# Altium integrated library FLoRa0.0.IntLib: 49 symbols
Pins are listed as number, name and electrical type; pins without a type are passive.

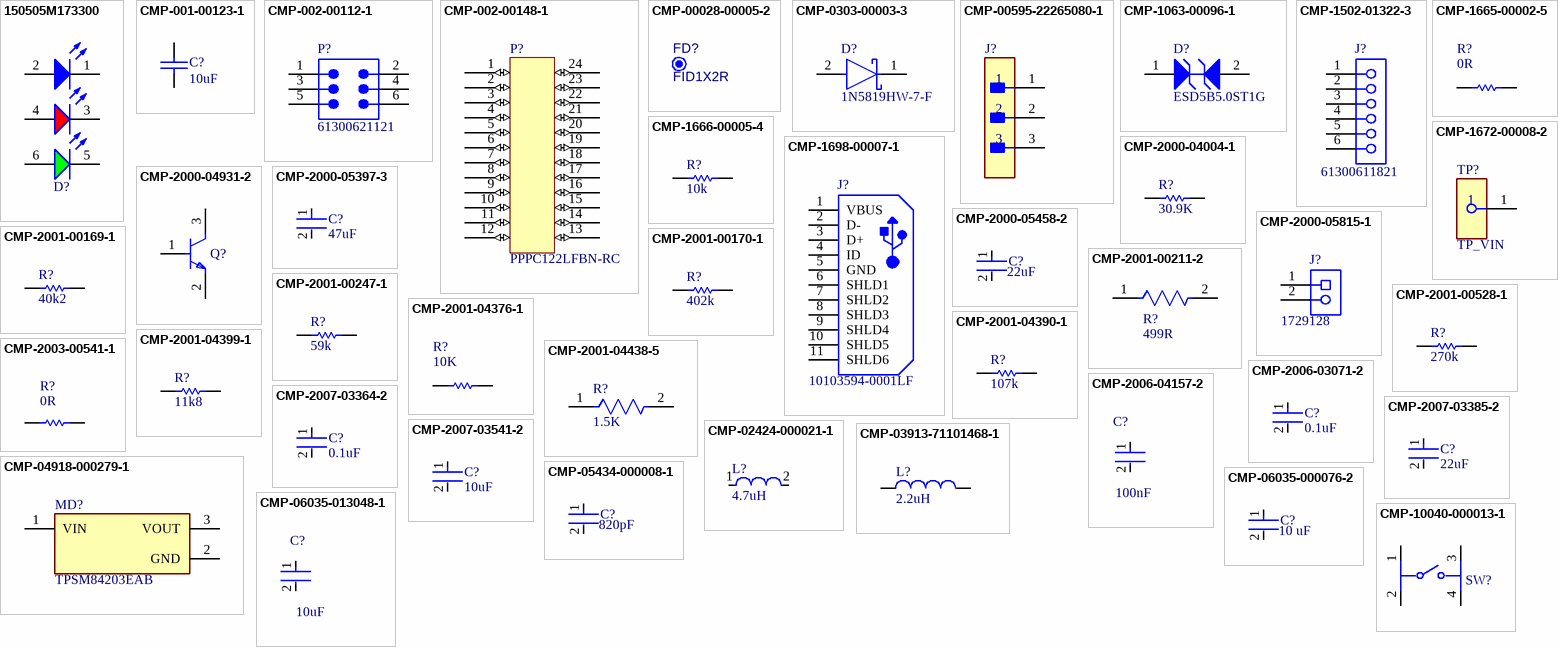
[diagram p0: symbols 150505M173300 to CMP-10040-000013-1]

## 150505M173300
designator D?, comment Red & Green & Blue, 120°  (value not drawn)
WL-SFTW Full-color TOP LED Waterclear, size 5050, Red & Green & Blue, 120°; Manufacturer Part Number: 150505M173300; Manufacturer: Wurth Elektronik; Case/Size Code: 5050; Chip Technology: AlInGaP + InGaN; Dominant Wavelength (Blue): 470nm; Dominant Wavelength (Green): 520nm; Dominant Wavelength (Red): 625nm; Forward Voltage (Blue): 3.2V; Forward Voltage (Red): 2V; Luminous Intensity (Blue): 350mcd; Luminous Intensity (Green): 1300mcd; Luminous Intensity (Red): 800mcd; Peak Wavelength (Blue): 465nm; Peak Wavelength (Green): 515nm; Peak Wavelength (Red): 635nm; Category: Signal LEDs; Match Code: WL-SFTW; ComponentLink1Description: Website Link; ComponentLink1URL: https://www.we-online.com/redexpert/article/150505M173300?ad; ComponentLink2Description: Datasheet Link; ComponentLink2URL: https://www.we-online.com/redexpert/spec/150505M173300?ad; Mount: Surface Mount; Operating Temperature Max: 85°C; Operating Temperature Min: -40°C; Packaging: Tape and Reel; Length: 5.4mm; Width: 5mm; Height: 1.5mm; Emitting Color: Red & Green & Blue; Forward Voltage (Green): 3.2V; Viewing Angle: 120°
footprint WL-SFTW_5050_150505M173300
pins: 1 K, 2 A, 3 K, 4 A, 5 K, 6 A

## CMP-001-00123-1
designator C?, comment 10uF
Source: ECET231_ProjectThree_SCHLIB_Rev02.SCHLIB; Design Item ID: CAP; Component Type: Capacitors
footprint 0805
pins: 1, 2

## CMP-002-00112-1
designator P?, comment 61300621121
Board Connector, 6 Contact(s), 2 Row(s), Male, Straight, 0.1 inch Pitch, Solder Terminal, Black Insulator, Plug; Manufacturer: Wurth Electronics; Max Operating Temperature: 125°C; Mounting Technology: Board; Connector Type: BOARD CONNECTOR; Min Operating Temperature: -40°C; RoHS Compliant: Yes; Manufacturer Part Number: 61300621121; Component Type: Connectors
footprint 61300621121 (Pin Header, pitch 2.54 mm, THT, Vertical, dual row, 6p)
pins: 1, 2, 3, 4, 5, 6

## CMP-002-00148-1
designator P?, comment PPPC122LFBN-RC
Board Connector, 24 Contact(s), 2 Row(s), Female, Straight, 0.1 inch Pitch, Solder Terminal, Locking; Manufacturer: Sullins; Connector Type: BOARD CONNECTOR; Mounting Technology: Board; RoHS Compliant: Yes; Manufacturer Part Number: PPPC122LFBN-RC; Component Type: Connectors
footprint DIP24
pins: 1 (io), 2 (io), 3 (io), 4 (io), 5 (io), 6 (io), 7 (io), 8 (io), 9 (io), 10 (io), 11 (io), 12 (io), 13 (io), 14 (io), 15 (io), 16 (io), 17 (io), 18 (io), 19 (io), 20 (io), 21 (io), 22 (io), 23 (io), 24 (io)

## CMP-00028-00005-2
designator FD?, comment FID1X2R  (no BOM)
Fiducial - Round 1x2mm; Manufacturer: No Vendor; Pins: 0; Manufacturer Part Number: FID1X2R; Component Type: Mechanical
footprint FID1X2R (Fiducial - Round 1x2mm)

## CMP-0303-00003-3
designator D?, comment 1N5819HW-7-F
DIODE SCHOTTKY 40V 1A SOD123; Forward Voltage: 450mV; Capacitance: 110pF; Max Forward Surge Current (Ifsm): 25A; Peak Reverse Current: 50uA; Polarity: Standard; Element Configuration: Single; Max Power Dissipation: 450mW; Min Operating Temperature: -65°C; Package Quantity: 3000; Contact Plating: Tin; Weight: 0.000353oz; Max Repetitive Reverse Voltage (Vrrm): 40V; Max Reverse Voltage (DC): 40V; Height: 1.25mm; Average Rectified Current: 1A; Width: 1.7mm; Case/Package: SOD-123-2; Lead Free: Lead Free; Max Operating Temperature: 125°C; Current Rating: 1A; Termination: SMD/SMT; Forward Current: 1A; Radiation Hardening: No; Number of Pins: 2; Length: 2.85mm; Voltage Rating (DC): 40V; REACH SVHC: No SVHC; Peak Non-Repetitive Surge Current: 25A; Packaging: Tape and Reel; Output Current: 1A
footprint FP-SOD123-IPC_A
footprint FP-SOD123-IPC_B
footprint FP-SOD123-MFG
footprint FP-SOD123-IPC_C
pins: 1 C, 2 A

## CMP-00595-22265080-1
designator J?, comment PREC003SAAN-RC  (value not drawn)
PREC003SAAN-RC Conn Header Vert 3POS 2.54MM; NexarPartId: 22265080; Number of Contacts: 3; Connector Type: Male Pin; Current Rating: 3A; Height: 8.74mm; Contact Mating Length: 5.842mm; Min Operating Temperature: -40°C; Termination: Solder; Packaging: Bulk; Pitch: 2.54mm; Color: Black; Mount: Through Hole; Contact Material: Nickel, Tin; Number of Rows: 1; Max Operating Temperature: 105°C; RoHS: Compliant; Contact Plating: Tin; Number of Positions: 3
footprint FP-PREC003SAAN-RC-MFG (Conn Header Vert 3POS 2.54MM)
pins: 1, 2, 3

## CMP-1063-00096-1
designator D?, comment ESD5B5.0ST1G
Transient Voltage Suppressor, Micro-Packaged Diode for ESD Protection, 2-Pin SOD-523, Pb-Free, Tape and Reel; Manufacturer: On Semiconductor; Number of Lines: 1; Direction: Bidirectional; VRWM Max (V): 5; V(BR) Min (V): 5.8; ComponentLink2URL: http://www.onsemi.cn/pub_link/Collateral/ESD5B5.0ST1G.PDF; Mounting Technology: Surface Mount; ComponentLink1URL: http://www.onsemi.com/; ComponentLink2Description: Datasheet; ComponentLink3Description: Package Specification; RoHS: Pb-Free; Packing: Tape and Reel; PackageDescription: 2-Pin SOD, Body 1.2 x 0.8 mm; ComponentLink1Description: Manufacturer URL; ComponentLink3URL: http://www.onsemi.cn/pub_link/Collateral/ESD5B5.0ST1G.PDF; PackageVersion: Rev. C, 03/2007; DatasheetVersion: Rev. 3; PartNumber: ESD5B5.0ST1G; PackageReference: SOD-523-2-502-01_C; IR Max (uA): 1
footprint ONSC-SOD-523-2-502-01_C_V (SOD, 2-Leads, Body 1.2x0.8mm)
pins: 1 A1, 2 A2

## CMP-1502-01322-3
designator J?, comment 61300611821
NexarPartId: 21642411; Current Rating: 3A; Operating Supply Voltage: 250V; Contact Resistance: 20mΩ; Gender: Female; Number of Pins: 6; Orientation: Vertical; Lead Pitch: 2.54mm; RoHS: Compliant
footprint 61300611821 (THT Vertical Socket Header WR-PHD, Pitch 2.54 mm, Single Row, 6 pins)
pins: 1, 2, 3, 4, 5, 6

## CMP-1665-00002-5
designator R?, comment 0R
Chip Resistor, 0 Ohm, +/- 1%, 0.125 W, -55 to 155 degC, 0805 (2012 Metric), RoHS, Tape and Reel; PartNumber: ERJ-6GEY0R00V; Tolerance: 5%; Resistance: 0 Ohm; REACH SVHC: No SVHC; Min Operating Temperature: -55 degC; Case/Package: 0805; Packaging: Tape and Reel; Package Quantity: 5000; ComponentLink1Description: Manufacturer URL; PackageDescription: 2-Pin Surface Mount Device, Body 2 x 1.25 mm; Mounting Technology: Surface Mount; Max Operating Temperature: 155 degC; Width: 1.25 mm; RoHSCompliant: True; Height: 0.6 mm; ComponentLink1URL: http://www.panasonic.com/; ComponentLink2URL: http://industrial.panasonic.com/cdbs/www-data/pdf/RDA0000/AOA0000C84.pdf; Case Code (Imperial): 0805; DatasheetVersion: 03/2015; Length: 2 mm; Case Code (Metric): 2012; ComponentLink2Description: Datasheet; Radiation Hardening: No
footprint RESC2013X70X40NL20T20 (Chip Resistor, 2-Leads, Body 2.00x1.25mm, IPC Medium Density)
footprint RESC2013X70X40LL20T20 (Chip Resistor, 2-Leads, Body 2.00x1.25mm, IPC High Density)
footprint RESC2013X70X40ML20T20 (Chip Resistor, 2-Leads, Body 2.00x1.25mm, IPC Low Density)
pins: 1, 2

## CMP-1666-00005-4
designator R?, comment 10k
Rfbb- Chip Resistor, 10 KOhm, +/- 1%, 100 mW, -55 to 155 degC, 0603 (1608 Metric), RoHS, Tape and Reel; Manufacturer: Vishay Semiconductor; Voltage Rating: 75 V; Max Operating Temperature: 155 degC; PackageDescription: 2-Pin Surface Mount Device, Body 1.575 x 0.85 mm; ComponentLink1Description: Manufacturer URL; RoHSCompliant: true; PackageReference: 0603; REACH SVHC: Unknown; Length: 1.55 mm; DatasheetVersion: 06/2012; Packaging: Tape and Reel; Min Operating Temperature: -55 degC; Mounting Technology: Surface Mount; ComponentLink2URL: https://datasheet.ciiva.com/11809/0900766b80d98afc-11809037.pdf; Height: 0.45 mm; ComponentLink2Description: Datasheet; Package Quantity: 5000; ComponentLink1URL: http://www.vishay.com/
footprint RESC1609X50X30NL8T20 (Chip Resistor, 2-Leads, Body 1.65x0.95mm, IPC Medium Density)
footprint RESC1609X50X30ML8T20 (Chip Resistor, 2-Leads, Body 1.65x0.95mm, IPC Low Density)
footprint RESC1609X50X30LL8T20 (Chip Resistor, 2-Leads, Body 1.65x0.95mm, IPC High Density)
pins: 1, 2

## CMP-1672-00008-2
designator TP?, comment TP_VIN
V_IN_TEST; NexarPartId: 22052288; Number of Contacts: 1; Contact Material: Bronze, Silver; Number of Pins: 1; Lead Free: Lead Free; Packaging: Tape and Reel; Mount: Surface Mount; Height: 2.286mm; Contact Plating: Silver; Material: Bronze; Termination: SMD/SMT; REACH SVHC: No SVHC; RoHS: Compliant
footprint FP-5019-MFG (Test Point, Mini, SMT, Phos Bronze/Silver, 1000pc Tape & Reel)
pins: 1

## CMP-1698-00007-1
designator J?, comment 10103594-0001LF
Micro USB 2.0 B Receptacle, -55 to 85 degC, 5-Pin SMD, RoHS, Tape and Reel; Type (Resistor): Thick Film; Case\Package: 0603; Resistance: 4.7 kohm; Tolerance: 1%; Voltage Rating: 75 V; Power Rating: 100 mW; Case Code (Imperial): 0603; Case Code (Metric): 1608; REACH SVHC: Unknown; ComponentLink1URL: http://portal.fciconnect.com/; Package Quantity: 5000; RoHSCompliant: true; Max Operating Temperature: 155 degC; Min Operating Temperature: -55 degC; Mount: Surface Mount; Weight: 7.1E-05 oz; Length: 1.55 mm; PackageDescription: 5-Pin Surface Mount Device, Body 8.04 x 5.62 mm; Pins: 2; Height: 0.45 mm; ComponentLink2Description: Datasheet; ComponentLink2URL: http://portal.fciconnect.com/Comergent//fci/drawing/10103594.pdf; PackageReference: FCI-10103594-0001LF; DatasheetVersion: Rev. A, 06/2010; Width: 0.85 mm; Packaging: Tape and Reel; ComponentLink1Description: Manufacturer URL
footprint FCI-10103594-0001LF_V (SMD, 5-Leads, Body 8.04x5.62mm, Pitch 0.65 mm)
pins: 1 VBUS, 2 D-, 3 D+, 4 ID, 5 GND, 6 SHLD1, 7 SHLD2, 8 SHLD3, 9 SHLD4, 10 SHLD5, 11 SHLD6

## CMP-2000-04004-1
designator R?, comment 30.9K
Rfbt; Manufacturer: Yageo; Part Number: RC0603FR-0730K9L
footprint RESC1608X55X25NL10T15 (Chip Resistor, 2-Leads, Body 1.60x0.80mm, IPC Medium Density)
footprint RESC1608X55X25LL10T15 (Chip Resistor, 2-Leads, Body 1.60x0.80mm, IPC High Density)
footprint RESC1608X55X25ML10T15 (Chip Resistor, 2-Leads, Body 1.60x0.80mm, IPC Low Density)
pins: 1, 2
1 alternate drawing of the same symbol

## CMP-2000-04931-2
designator Q?, comment MMBT3904-7-F  (value not drawn)
TRANS NPN 40V 0.2A SMD SOT23-3; Frequency: 300MHz; Power Dissipation: 350mW; Element Configuration: Single; Max Power Dissipation: 300mW; Max Collector Current: 200mA; Collector Emitter Saturation Voltage: 300mV; Number of Elements: 1; hFE Min: 100; Collector Base Voltage (VCBO): 60V; Emitter Base Voltage (VEBO): 6V; Contact Plating: Tin; Package Quantity: 3000; Max Frequency: 300MHz; REACH SVHC: No SVHC; Max Operating Temperature: 150°C; Width: 1.4mm; Collector Emitter Voltage (VCEO): 40V; Voltage Rating (DC): 40V; Radiation Hardening: No; Case/Package: SOT-23; Height: 1mm; Collector Emitter Breakdown Voltage: 40V; Length: 3.05mm; Polarity: NPN; Packaging: Tape and Reel; Number of Pins: 3; Min Operating Temperature: -55°C; Gain Bandwidth Product: 300MHz; Mount: Surface Mount; Weight: 0.000282oz; Continuous Collector Current: 200mA; Transition Frequency: 300MHz; Max Breakdown Voltage: 40V; Lead Free: Lead Free
footprint FP-SOT23-IPC_A
footprint FP-SOT23-MFG
footprint FP-SOT23-IPC_C
footprint FP-SOT23-IPC_B
pins: 1 B, 2 E, 3 C

## CMP-2000-05397-3
designator C?, comment 47uF
Multilayer Ceramic Capacitors 47uF ±20% 25V X5R SMD 1206; Weight: 0.000571oz; Dielectric: X5R; Length: 0.126inch; Voltage Rating: 25V; Case/Package: 1206; Dielectric Material: Ceramic; Min Operating Temperature: -55°C; Lead Free: Lead Free; Packaging: Tape and Reel; Package Quantity: 1; Mount: Surface Mount; Depth: 1.6mm; REACH SVHC: No SVHC; Termination: SMD/SMT; Case Code (Imperial): 1206; Series: C; Resistor Type: Ceramic; Voltage: 25V; Width: 0.063inch; Height: 1.6mm; Tolerance: 20%; Capacitance: 47uF; Max Operating Temperature: 85°C; Voltage Rating (DC): 25V; RoHS Compliant: Yes; Thickness: 0.071inch; Case Code (Metric): 3216
footprint FP-C3216-160-0_2-MFG
footprint FP-C3216-160-0_2-IPC_A
footprint FP-C3216-160-0_2-IPC_B
footprint FP-C3216-160-0_2-IPC_C
pins: 1, 2

## CMP-2000-05458-2
designator C?, comment 22uF
CAP CER 22UF 25V X5R 1210; Manufacturer: Murata Electronics North America; Manufacturer Part Number: GRM32ER61E226KE15L; Possible Substitute: GRM32ER61E226KE15K; Other Names: 490-3889-2; Material: Ceramic; Tolerance: 10%; Digikey Description: CAP CER 22UF 25V X5R 1210; Mouser Description: Multilayer Ceramic Capacitors MLCC - SMD/SMT 1210 22uF 25volts X5R 10%; Device Class L2: Capacitors; Height: 2.7mm; Temperature Characteristic: X5R; Category: Cap; RoHS: TRUE; Operating Temperature: -55°C ~ 85°C; Temperature: -55°C to +85°C; Lead Free: Yes; Package: GRM32; Temperature Range High: +85°C; Package / Case: 1210 (3225 Metric); Standard Package: 1,000; Packaging: Cut Tape (CT); Capacitance: 22uF; Thickness (Max): 0.106" (2.70mm); Value: 22uF; Automotive: No; Device Class L1: Passive Components; Voltage - Rated: 25V; Temperature Range Low: -55°C; Size / Dimension: 0.126" L x 0.098" W (3.20mm x 2.50mm); ComponentLink2Description: Datasheet; Device Class L3: Ceramic Capacitors; Temperature Coefficient: X5R; ComponentLink2URL: https://search.murata.co.jp/Ceramy/image/img/A01X/G101/ENG/GRM32ER61E226KE15-01A.pdf; Voltage Rating: 25V; Octopart: https://octopart.com/grm32er61e226ke15l-murata-197441; Applications: General Purpose; Mounting Type: Surface Mount, MLCC
footprint FP-GRM32-MFG
footprint FP-GRM32-IPC_C
footprint FP-GRM32-IPC_B
footprint FP-GRM32-IPC_A
pins: 1, 2

## CMP-2000-05815-1
designator J?, comment 1729128
PCB Terminal Block, 13.5 A, 400 V, 2-Pin THD, RoHS, Bulk; Manufacturer: Phoenix Contact; Package Version: 03/2015; No. of Rows: 1; Pitch: 5.08mm; No. of Positions: 2; Voltage Rating: 400V; Current Rating: 13500mA; Manufacturer URL: http://www.phoenixcontact.com/; Datasheet URL: https://datasheet.ciiva.com/16046/1729128-16046181.pdf; RoHS: TRUE; Package URL: https://www.phoenixcontact.com/online/portal/pi/pxc/product_detail_page/!ut/p/b1/3VdJjqNKFDxLH8AFycySyWY2ozFsEPOMMQaDOX1XedGL_1Vdm5YXJleknhSKeBkvI6EA8ncAo3AYoDhBQGco6KN7VURTdemj9us_IEKEZo_YHiPAEWEFmDGOHMORkqKYCORBZxgL7ZoaZYcbFFUZ3fqxSY6GOuxydWUuHqz1ynmMFygu583Bob0Ewr6Sd_l-5m-kAueHiB0jpRwZwe58wwtkpxtMYd_LmGcDRU02dRNEyWt6Y2ti5pSyJ_reIkzIulrqApdnbT11V5jnCKbYNCvhEM1MCpPByat_X379-iThf08CI5GfOPqfBeS3BRoBOdD55AKVv0iLwCMq-2BrzXWSGRH7pUGD9uwXQjiph3xL0DKQwdGa0JImiIOmBNOestqgwTHSSs2oOep-78apyXQBvNi8ZLaFjvjWvcaUEBu0MC6Wbe-d6mB0FAebo2lUWinqYaZs5DAYzV0RP9yitUjnGJ0iI9xhZkT42OCQNUJJhkgWINNQLP2JFP6OpMg3JCVg70jqHT0lvKOnhHf0lPuOnnLf0VPuWx6_dxwUIvwk5WMkT0kLL1mh61l2yZVSzG3pYV_bqo-mj6uMKwKwdnnW8Jh5RTOJzMOA5c-eJDaZQw4mTMPH02PvS_ZAqNVjVTo2WyYLkwH_KU1mmmG5kjRhDqPXLwwVHvVOjCM60-fpXvTDfMGW1PVFVS1r4e4yVDk4ZdNbkUHvqPqQSeian4UD39fNKmachqdJ1NJbyk8rXT9mXTvPk3oE5meulKGgiruPJek-4I9hTT6G8ZLOyRSm2RRVbThERQad5OS28hdt4YW4vG0stgYYzsWsK4_7y6DZMjJSCqri1kyiZR5vD7pwIrNR7QwPHTcLTI5qT7eRlpHrdGiupYlqQDJ7zy_CND8fWWBoLRXxk1RVcXiBQwbTD4Xi7KL-FuO94t9xaqweXzH; PartNumber: 1729128; Package Description: 2-Pin Through Hole Device, Body 8.1 x 10.16 mm, Pitch 5.08 mm; Datasheet Version: 12/2013; Mounting Technology: ThroughHole; Orientation: Horizontal; Package Reference: 1729128-2; Packing: Bulk
footprint PHOE-1729128-2_V (Receptacle, 2-Leads, Body 8.1x10.16mm, Pitch 5.08mm)
pins: 1, 2

## CMP-2001-00169-1
designator R?, comment value 40k2  (hidden comment: ERJ-6ENF4022V)
Manufacturer: Panasonic; Part Number: ERJ-6ENF4022V
footprint RESC2013X70X40NL20T20 (Chip Resistor, 2-Leads, Body 2.00x1.25mm, IPC Medium Density)
footprint RESC2013X70X40LL20T20 (Chip Resistor, 2-Leads, Body 2.00x1.25mm, IPC High Density)
footprint RESC2013X70X40ML20T20 (Chip Resistor, 2-Leads, Body 2.00x1.25mm, IPC Low Density)
pins: 1, 2
1 alternate drawing of the same symbol

## CMP-2001-00170-1
designator R?, comment value 402k  (hidden comment: ERJ-6ENF4023V)
Manufacturer: Panasonic; Part Number: ERJ-6ENF4023V
footprint RESC2013X70X40ML20T20 (Chip Resistor, 2-Leads, Body 2.00x1.25mm, IPC Low Density)
footprint RESC2013X70X40LL20T20 (Chip Resistor, 2-Leads, Body 2.00x1.25mm, IPC High Density)
footprint RESC2013X70X40NL20T20 (Chip Resistor, 2-Leads, Body 2.00x1.25mm, IPC Medium Density)
pins: 1, 2
1 alternate drawing of the same symbol

## CMP-2001-00211-2
designator R?, comment 499R
RES SMD 499 OHM 1% 1/8W 0805; Temperature Coefficient: 100ppm/°C; Working Voltage: 150V; Power Rating: 125mW; Case/Package: 0805; Mount: Surface Mount; Height: 0.6mm; Resistor Type: Thick Film; Length: 2mm; Depth: 1.25mm; Tolerance: 1%; REACH SVHC: No SVHC; RoHS Compliant: Yes; Case Code (Imperial): 0805; Min Operating Temperature: -55°C; Contact Plating: Tin; Lead Free: Lead Free; Construction: Rectangular; Technology: THICK FILM; Termination: SMD/SMT; Features: Automotive AEC-Q200; Case Code (Metric): 2012; Resistance Tolerance: 1%; Voltage Rating: 150V; Max Operating Temperature: 155°C; Series: ERJ; Packaging: Tape and Reel; Radiation Hardening: No; Military Standard: Not; Voltage Rating (DC): 150V; Package Quantity: 1; Max Power Dissipation: 125mW; Number of Terminations: 2; Resistance: 499R; Width: 0.049inch
footprint FP-ERJ6EN-IPC_B
footprint FP-ERJ6EN-MFG
footprint FP-ERJ6EN-IPC_A
footprint FP-ERJ6EN-IPC_C
pins: 1, 2

## CMP-2001-00247-1
designator R?, comment value 59k  (hidden comment: ERJ-6ENF5902V)
Manufacturer: Panasonic; Part Number: ERJ-6ENF5902V
footprint RESC2013X70X40NL20T20 (Chip Resistor, 2-Leads, Body 2.00x1.25mm, IPC Medium Density)
footprint RESC2013X70X40LL20T20 (Chip Resistor, 2-Leads, Body 2.00x1.25mm, IPC High Density)
footprint RESC2013X70X40ML20T20 (Chip Resistor, 2-Leads, Body 2.00x1.25mm, IPC Low Density)
pins: 1, 2
1 alternate drawing of the same symbol

## CMP-2001-00528-1
designator R?, comment value 270k  (hidden comment: ERJ6ENF2703V)
Manufacturer: Panasonic; Part Number: ERJ6ENF2703V
footprint RESC2013X70X40NL20T20 (Chip Resistor, 2-Leads, Body 2.00x1.25mm, IPC Medium Density)
footprint RESC2013X70X40LL20T20 (Chip Resistor, 2-Leads, Body 2.00x1.25mm, IPC High Density)
footprint RESC2013X70X40ML20T20 (Chip Resistor, 2-Leads, Body 2.00x1.25mm, IPC Low Density)
pins: 1, 2
1 alternate drawing of the same symbol

## CMP-2001-04376-1
designator R?, comment 10K
Manufacturer: Panasonic; Part Number: ERJ-6ENF1002V
footprint RESC2013X70X40ML20T20 (Chip Resistor, 2-Leads, Body 2.00x1.25mm, IPC Low Density)
footprint RESC2013X70X40NL20T20 (Chip Resistor, 2-Leads, Body 2.00x1.25mm, IPC Medium Density)
footprint RESC2013X70X40LL20T20 (Chip Resistor, 2-Leads, Body 2.00x1.25mm, IPC High Density)
pins: 1, 2
1 alternate drawing of the same symbol

## CMP-2001-04390-1
designator R?, comment value 107k  (hidden comment: ERJ-6ENF1073V)
Manufacturer: Panasonic; Part Number: ERJ-6ENF1073V
footprint RESC2013X70X40LL20T20 (Chip Resistor, 2-Leads, Body 2.00x1.25mm, IPC High Density)
footprint RESC2013X70X40NL20T20 (Chip Resistor, 2-Leads, Body 2.00x1.25mm, IPC Medium Density)
footprint RESC2013X70X40ML20T20 (Chip Resistor, 2-Leads, Body 2.00x1.25mm, IPC Low Density)
pins: 1, 2
1 alternate drawing of the same symbol

## CMP-2001-04399-1
designator R?, comment value 11k8  (hidden comment: ERJ-6ENF1182V)
Manufacturer: Panasonic; Part Number: ERJ-6ENF1182V
footprint RESC2013X70X40NL20T20 (Chip Resistor, 2-Leads, Body 2.00x1.25mm, IPC Medium Density)
footprint RESC2013X70X40ML20T20 (Chip Resistor, 2-Leads, Body 2.00x1.25mm, IPC Low Density)
footprint RESC2013X70X40LL20T20 (Chip Resistor, 2-Leads, Body 2.00x1.25mm, IPC High Density)
pins: 1, 2
1 alternate drawing of the same symbol

## CMP-2001-04438-5
designator R?, comment 1.5K
RES SMD 1.5K OHM 1% 1/8W 0805; Power Rating: 125mW; Temperature Coefficient: 100ppm/°C; Resistance: 1.5kR; Voltage Rating: 150V; Max Operating Temperature: 155°C; Number of Terminations: 2; Resistance Tolerance: 1%; Size Code: 0805; Case/Package: 0805; Features: Automotive AEC-Q200; Reach SVHC Compliant: Yes; RoHS Compliant: Yes; Mount: Surface Mount; Military Standard: Not; Depth: 1.25mm; Number of Pins: 2; Height: 0.6mm; Case Code (Metric): 2012; Technology: THICK FILM; Radiation Hardening: No; Max Power Dissipation: 125mW; Min Operating Temperature: -55°C; Case Code (Imperial): 0805; Construction: Rectangular; Lead Free: Lead Free; Series: ERJ; Width: 1.2mm; Termination: SMD/SMT; Contact Plating: Tin; Package Quantity: 1; Voltage Rating (DC): 150V; Tolerance: 1%; Length: 2mm; Packaging: Tape and Reel; Resistor Type: Thick Film
footprint FP-ERJ6EN-MFG
footprint FP-ERJ6EN-IPC_C
footprint FP-ERJ6EN-IPC_B
footprint FP-ERJ6EN-IPC_A
pins: 1, 2

## CMP-2003-00541-1
designator R?, comment 0R
Manufacturer: Panasonic; Part Number: ERJ-8GEY0R00V
footprint RESC3216X70X50NL05T20 (Chip Resistor, 2-Leads, Body 3.20x1.60mm, IPC Medium Density)
footprint RESC3216X70X50LL05T20 (Chip Resistor, 2-Leads, Body 3.20x1.60mm, IPC High Density)
pins: 1, 2
1 alternate drawing of the same symbol

## CMP-2006-03071-2
designator C?, comment 0.1uF
CAP CER 0.1UF 16V Y5V 0603; Tolerance: 80%; Capacitance: 100nF; Dielectric Material: Ceramic; Radiation Hardening: No; Lead Free: Lead Free; Package Quantity: 4000; Voltage Rating: 16V; Width: 0.031inch; Thickness: 0.034inch; Max Operating Temperature: 85°C; Case/Package: 0603; Depth: 0.8mm; Case Code (Metric): 1608; Voltage Rating (DC): 16V; Packaging: Tape and Reel; Min Operating Temperature: -30°C; REACH SVHC: No SVHC; Lead Pitch: 0.7mm; Case Code (Imperial): 0603; Series: C; Termination: SMD/SMT; RoHS Compliant: Yes; Length: 1.6mm; Height: 0.8mm; Construction: Flat; Dielectric: Y5V; Mount: Surface Mount; Number of Pins: 2
footprint FP-C0603C104Z4VACTU-MFG
footprint FP-C0603C104Z4VACTU-IPC_C
footprint FP-C0603C104Z4VACTU-IPC_B
footprint FP-C0603C104Z4VACTU-IPC_A
pins: 1, 2

## CMP-2006-04157-2
designator C?, comment 100nF
General Purpose Ceramic Capacitor, 0603, 100nF, 10%, X7R, 15%, 25V; Termination: SMD/SMT; Voltage Rating: 25V; Mount: Surface Mount; Number of Pins: 2; Contact Plating: Tin; Case Code (Imperial): 0603; Construction: Flat; Max Operating Temperature: 125°C; Voltage: 25V; Height: 0.9mm; Thickness: 0.035inch; Case Code (Metric): 1608; Case/Package: 0603; Capacitance: 100nF; Length: 1.6mm; Dielectric: X7R; Width: 0.032inch; Series: -; Min Operating Temperature: -55°C; Package Quantity: 4000; REACH SVHC: No SVHC; RoHS Compliant: Yes; Voltage Rating (DC): 25V; Depth: 0.81mm; Packaging: Tape and Reel; Lead Free: Lead Free; Radiation Hardening: No; Tolerance: 10%
footprint FP-0603-L_1_6_0_15-W_0_81-MFG
footprint FP-0603-L_1_6_0_15-W_0_81-IPC_B
footprint FP-0603-L_1_6_0_15-W_0_81-IPC_A
footprint FP-0603-L_1_6_0_15-W_0_81-IPC_C
pins: 1, 2

## CMP-2007-03364-2
designator C?, comment 0.1uF
Ceramic Capacitor for Automotive 100nF ±10% 100VDC X7R 0805 Embossed T/R; Voltage Rating: 100V; Termination: SMD/SMT; Tolerance: 10%; Case Code (Imperial): 0805; Length: 2mm; Max Operating Temperature: 125°C; Case/Package: 0805; Mount: Surface Mount; Packaging: Tape and Reel; Package Quantity: 1; Min Operating Temperature: -55°C; Case Code (Metric): 2012; Radiation Hardening: No; REACH SVHC: No SVHC; Dielectric: X7R; Depth: 1.25mm; Lead Free: Lead Free; Ratings: AEC-Q200; Height: 1.25mm; Voltage: 100V; Capacitance: 100nF; Voltage Rating (DC): 100V; Width: 0.049inch; Thickness: 0.055inch
footprint FP-GCM21B-0_15-MFG
footprint FP-GCM21B-0_15-IPC_C
footprint FP-GCM21B-0_15-IPC_B
footprint FP-GCM21B-0_15-IPC_A
pins: 1, 2

## CMP-2007-03385-2
designator C?, comment 22uF
Chip Multilayer Ceramic Capacitors for General Purpose, 0805, 22uF, X5R, 15%, 20%, 6.3V; Material: Ceramic; Max Operating Temperature: 85°C; Voltage: 6.3V; Min Operating Temperature: -55°C; Case/Package: 0805; Thickness: 0.053inch; Dielectric: X5R; Packaging: Tape and Reel; Depth: 1.25mm; Termination: SMD/SMT; Voltage Rating (DC): 6.3V; Radiation Hardening: No; Tolerance: 20%; Mount: Surface Mount; Lead Free: Lead Free; Package Quantity: 1; REACH SVHC: No SVHC; Voltage Rating: 6.3V; Capacitance: 22uF; Length: 2mm; Case Code (Imperial): 0805; Case Code (Metric): 2012; Width: 0.049inch; Height: 1.25mm
footprint FP-GRM21B-0_15-MFG
footprint FP-GRM21B-0_15-IPC_A
footprint FP-GRM21B-0_15-IPC_C
footprint FP-GRM21B-0_15-IPC_B
pins: 1, 2

## CMP-2007-03541-2
designator C?, comment 10uF
Chip Multilayer Ceramic Capacitors for General Purpose, 0805, 10uF, X5R, 15%, 10%, 25V; Length: 2mm; Depth: 1.25mm; Termination: SMD/SMT; Voltage: 25V; Height: 1.25mm; Material: Ceramic; Thickness: 0.053inch; Radiation Hardening: No; Min Operating Temperature: -55°C; Width: 0.049inch; Package Quantity: 1; Mount: Surface Mount; Dielectric: X5R; Packaging: Tape and Reel; Capacitance: 10uF; Voltage Rating (DC): 25V; Lead Free: Lead Free; Max Operating Temperature: 85°C; Case Code (Imperial): 0805; Case/Package: 0805; Tolerance: 10%; Voltage Rating: 25V; Case Code (Metric): 2012
footprint FP-GRM21B-0_15-IPC_C
footprint FP-GRM21B-0_15-MFG
footprint FP-GRM21B-0_15-IPC_A
footprint FP-GRM21B-0_15-IPC_B
pins: 1, 2

## CMP-02424-000021-1
designator L?, comment 4.7uH
Commercial Inductors, Low DCR Series 4.7uH 8A 22.6mΩ 20%; Self Resonant Frequency: 17MHz; Test Frequency: 100kHz; Core Material: Ferrite; Saturation Current: 8.7A; DC Resistance (DCR): 22.6mR; Shielding: Shielded; Current Rating: 8A; Packaging: Tape and Reel; RMS Current (Irms): 8A; Min Operating Temperature: -55°C; Tolerance: 20%; Contact Plating: Tin; Width: 8.18mm; Inductance: 4.7uH; Number of Pins: 2; Inductance Tolerance: 20%; Height: 4mm; Mount: Surface Mount; Package Quantity: 500; Lead Free: Lead Free; Max DC Current: 8A; Case/Package: 3232; Military Standard: Not; Max Operating Temperature: 125°C; Depth: 8.26mm; Length: 8.89mm; Termination: SMD/SMT; Height - Seated (Max): 0.157inch; Radiation Hardening: No
footprint FP-IHLP-3232DZ-FP_2_413x5-MFG
pins: 1, 2

## CMP-03913-71101468-1
designator L?, comment 2.2uH
74479299222 General Purpose Inductor, 2.2uH, 15%, 1 Element, Iron Alloy-Core, SMD, 1210; NexarPartId: 71101468; Inductance Tolerance: 20%; Shielding: Shielded; Saturation Current: 3.5A; Test Frequency: 1MHz; DC Resistance (DCR): 70mΩ; Self Resonant Frequency: 25MHz; Current Rating: 2.1A; Inductance: 2.2µH; Case Code (Metric): 3225; Case Code (Imperial): 1210; Min Operating Temperature: -40°C; Width: 2.5mm; Height - Seated (Max): 1.1938mm; Mount: Surface Mount; Length: 3.2mm; Ambient Temperature Range Low: -40°C; Number of Pins: 2; Ambient Temperature Range High: 85°C; RoHS: Compliant; REACH SVHC: Unknown; Max Operating Temperature: 125°C; Tolerance: 20%; Case/Package: 1210; Height: 1.2mm
footprint WE-PMCI_1210_L3.2W2.5H1.2 (General Purpose Inductor, 0.47uH, 30%, 1 Element, SMD, 1210)
pins: 1, 2

## CMP-04918-000279-1
designator MD?, comment TPSM84203EAB
DC DC CONVERTER 3.3V; Max Output Current: 1.5A; Max Input Voltage: 28V; Efficiency: 94%; Number of Outputs: 1; Min Input Voltage: 4.5V; Mount: Through Hole; RoHS Compliant: Yes; Packaging: Tray; Voltage - Output 1: 3.3V; Features: OVP; Max Operating Temperature: 125°C; Min Operating Temperature: -40°C
footprint FP-EAB0003A-MFG
pins: 1 VIN (power), 2 GND (power), 3 VOUT (power)

## CMP-05434-000008-1
designator C?, comment Capacitance: 820pF  (hidden comment: ECH-U1H821JX5)
CAP FILM 820PF 5% 50VDC 0805; Life (Hours): 500Hour; Voltage Rating (DC): 50V; Dielectric: PPS; Dielectric Material: Polyphenylene; Construction: Flat; Tolerance: 5%; Height - Seated (Max): 0.043inch; Height: 0.9mm; Width: 1.25mm; REACH SVHC: No SVHC; Min Operating Temperature: -55°C; Case Code (Metric): 2012; Radiation Hardening: No; Series: ECHU(X); Max Operating Temperature: 125°C; Case Code (Imperial): 0805; RoHS Compliant: Yes; Voltage Rating: 50V; Termination: SMD/SMT; Contact Plating: Copper; Depth: 1.25mm; Length: 2mm; Packaging: Tape and Reel; Case/Package: 0805; Package Quantity: 3000; Voltage: 50V; Mount: Surface Mount
footprint FP-ECHUJ1-MFG
footprint FP-ECHUJ1-IPC_C
footprint FP-ECHUJ1-IPC_B
footprint FP-ECHUJ1-IPC_A
pins: 1, 2

## CMP-06035-000076-2
designator C?, comment 10 uF
Multi-Layer Ceramic Capacitor 10uF 50V X5R ±10% 1206 Emboss T/R; Length: 0.126inch; Max Operating Temperature: 85°C; Width: 0.063inch; Ratings: AEC-Q200; Voltage Rating: 50V; Dielectric: X5R; Min Operating Temperature: -55°C; Case Code (Imperial): 1206; Capacitance: 10uF; Case Code (Metric): 3216; Thickness: 0.071inch; Tolerance: 10%; Mount: Surface Mount; Case/Package: 1206; Packaging: Cut Tape; Voltage Rating (DC): 50V
footprint FP-GRT31C-0_2-IPC_A
footprint FP-GRT31C-0_2-IPC_C
footprint FP-GRT31C-0_2-MFG
footprint FP-GRT31C-0_2-IPC_B
pins: 1, 2

## CMP-06035-013048-1
designator C?, comment 10uF
Chip Multilayer Ceramic Capacitors for General Purpose, 0805, 10uF, X5R, 15%, 20%, 25V; Max Operating Temperature: 85°C; Package Quantity: 3000; Case/Package: 0805; Depth: 1.25mm; Case Code (Imperial): 0805; Termination: SMD/SMT; Width: 0.049inch; Packaging: Tape and Reel; Tolerance: 20%; Height: 1.25mm; Min Operating Temperature: -55°C; Capacitance: 10uF; Weight: 0.000335oz; Voltage Rating (DC): 25V; Dielectric: X5R; Length: 2mm; Thickness: 0.055inch; Voltage Rating: 25V; Resistor Type: Ceramic; Lead Free: Lead Free; Case Code (Metric): 2012; Mount: Surface Mount; REACH SVHC: No SVHC
footprint FP-GRM21B-0_15-IPC_A
footprint FP-GRM21B-0_15-MFG
footprint FP-GRM21B-0_15-IPC_B
footprint FP-GRM21B-0_15-IPC_C
pins: 1, 2

## CMP-10040-000013-1
designator SW?, comment PTS526SK15SMTR2LFS  (value not drawn)
TACT 5.2 X 5.2, 1.5 MM H, 260GF,; Manufacturer: C&K; Operating Force: 250gf; Throw Configuration: SPST-NO; Contact Current Rating: 50mA; Standoff Height: 0mm; Contact Resistance: 100mΩ; Voltage Rating Dc: 12V; Electromechanical Life: 200000Cycles; Device Class L3: Tactile Switches; Device Class L2: Switches; Temperature: -20°C to +70°C; Temperature Range Low: -20°C; Package: PTS526SK15SMTR2LFS; Temperature Range High: +70°C; ComponentLink2Description: Datasheet; Device Class L1: Electromechanical; Height: 1.65mm; Digikey Description: TACT 5.2 X 5.2, 1.5 MM H, 260GF,; Category: Switch; RoHS: TRUE; Automotive: No; Lead Free: Yes; Manufacturer Part Number: PTS526SK15SMTR2LFS; Octopart: https://octopart.com/pts526+sk15+smtr2+lfs-c%26k+components-100617999; ComponentLink2URL: https://www.ckswitches.com/media/2780/pts526.pdf
footprint FP-PTS526SK15SMTR2LFS-MFG
pins: 1, 2, 3, 4

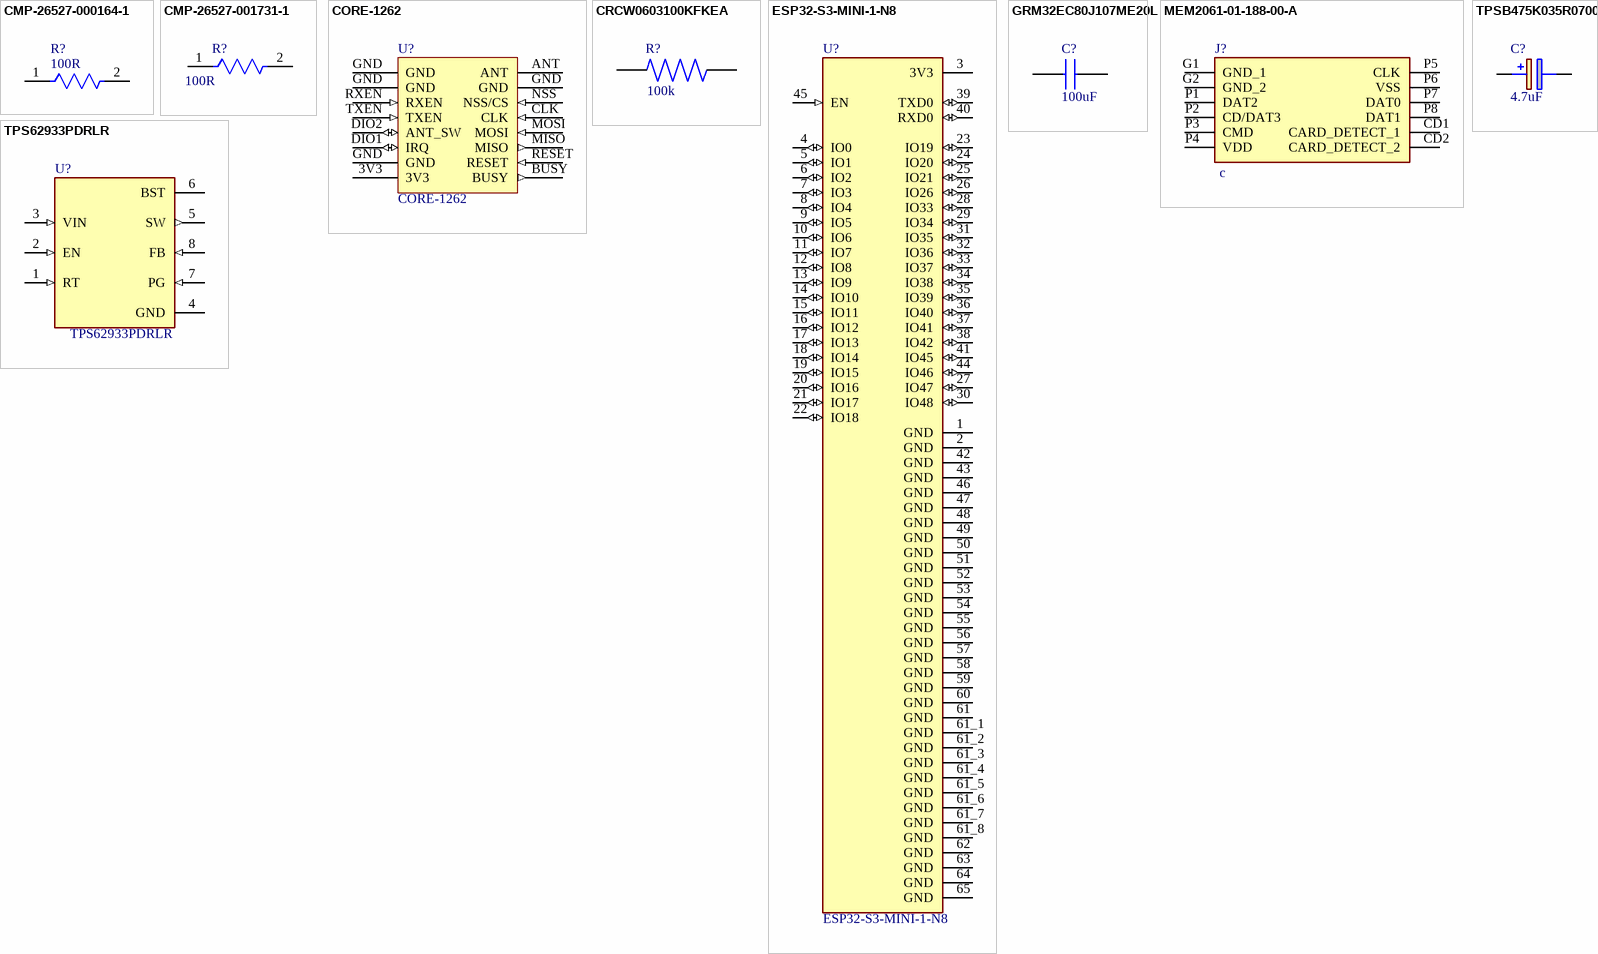
[diagram p1: symbols CMP-26527-000164-1 to TPSB475K035R0700]

## CMP-26527-000164-1
designator R?, comment 100R
100Ω ±1% 0.25W 0805 High Power Anti-Sulfur Thin Film Chip Resistor; Max Power Dissipation: 250mW; Temperature Coefficient: 100ppm/°C; Length: 0.079inch; Tolerance: 1%; Min Operating Temperature: -55°C; Resistance: 100R; Mount: Surface Mount; Case Code (Imperial): 0805; Packaging: Tape and Reel; Case/Package: 0805; Height: 0.024inch; Series: RNCP; Width: 0.049inch; Lead Free: Lead Free; Case Code (Metric): 2012; Features: Moisture Resistant; Number of Terminations: 2; Resistor Type: Thin Film; Max Operating Temperature: 155°C; RoHS Compliant: Yes
footprint FP-RNCP0805-MFG
footprint FP-RNCP0805-IPC_C
footprint FP-RNCP0805-IPC_A
footprint FP-RNCP0805-IPC_B
pins: 1, 2

## CMP-26527-001731-1
designator R?, comment Resistance: 100R  (hidden comment: RMCF0805FT100R)
100Ω ±1% 0.125W 0805 Thick Film Chip Resistor AEC-Q200 compliant; Power Rating: 250mW; Temperature Coefficient: 100ppm/°C; Max Power Dissipation: 125mW; Radiation Hardening: No; RoHS Compliant: Yes; Case Code (Imperial): 0805; Depth: 1.25mm; Length: 2mm; Min Operating Temperature: -55°C; Series: RMCF; Packaging: Tape and Reel; Features: Automotive AEC-Q200; Height: 0.026inch; Size Code: 0805; Tolerance: 1%; Number of Terminations: 2; Max Operating Temperature: 155°C; Case/Package: 0805; Width: 0.049inch; Contact Plating: Tin; Resistor Type: Thick Film; Construction: Rectangular; Lead Free: Lead Free; Military Standard: Not; Case Code (Metric): 2012; Mount: Surface Mount
footprint FP-RMCF0805-IPC_A
footprint FP-RMCF0805-MFG
footprint FP-RMCF0805-IPC_C
footprint FP-RMCF0805-IPC_B
pins: 1, 2

## CORE-1262
designator U?
LoRa HF module
footprint WAVE-20855-Core1262 (Chip Array, Flat, 16-Leads, Pitch 2.54mm,  Body 22.00x19.00mm,  IPC Medium Density)
pins: 3V3 (power), ANT, BUSY (out), CLK (in), DIO1 IRQ (io), DIO2 ANT_SW (io), GND (power), GND (power), GND (power), GND (power), MISO (out), MOSI (in), NSS NSS/CS (in), RESET (in), RXEN (in), TXEN (in)

## CRCW0603100KFKEA
designator R?, comment 100k
Resistor, Thick Film, 100 Kilohms, 0.1W, 1%, SMT, TCR 37 ppm/DegC, Tape and Reel | Vishay Dale CRCW0603100KFKEA; SnapEDA_Link: https://www.snapeda.com/parts/CRCW0603100KFKEA/Vishay+Dale/view-part/?ref=snap; Package: 1508 Vishay; Value: *; MF: Vishay; MP: CRCW0603100KFKEA; Check_prices: https://www.snapeda.com/parts/CRCW0603100KFKEA/Vishay+Dale/view-part/?ref=eda
footprint RESC1508X50N
pins: 1, 2

## ESP32-S3-MINI-1-N8
designator U?
Bluetooth, WiFi 802.11b/g/n, Bluetooth v5.0 Transceiver Module 2.4GHz PCB Trace Surface Mount; MF: Espressif Systems; Package: None; Price: None; Check_prices: https://www.snapeda.com/parts/ESP32-S3-MINI-1-N8/Espressif+Systems/view-part/?ref=eda; Value: *; SnapEDA_Link: https://www.snapeda.com/parts/ESP32-S3-MINI-1-N8/Espressif+Systems/view-part/?ref=snap; MP: ESP32-S3-MINI-1-N8; Availability: In Stock; Purchase-URL: https://pricing.snapeda.com/search?q=ESP32-S3-MINI-1-N8&ref=eda
footprint XCVR_ESP32-S3-MINI-1-N8
pins: 1 GND (power), 2 GND (power), 3 3V3 (power), 4 IO0 (io), 5 IO1 (io), 6 IO2 (io), 7 IO3 (io), 8 IO4 (io), 9 IO5 (io), 10 IO6 (io), 11 IO7 (io), 12 IO8 (io), 13 IO9 (io), 14 IO10 (io), 15 IO11 (io), 16 IO12 (io), 17 IO13 (io), 18 IO14 (io), 19 IO15 (io), 20 IO16 (io), 21 IO17 (io), 22 IO18 (io), 23 IO19 (io), 24 IO20 (io), 25 IO21 (io), 26 IO26 (io), 27 IO47 (io), 28 IO33 (io), 29 IO34 (io), 30 IO48 (io), 31 IO35 (io), 32 IO36 (io), 33 IO37 (io), 34 IO38 (io), 35 IO39 (io), 36 IO40 (io), 37 IO41 (io), 38 IO42 (io), 39 TXD0 (io), 40 RXD0 (io), 41 IO45 (io), 42 GND (power), 43 GND (power), 44 IO46 (io), 45 EN (in), 46 GND (power), 47 GND (power), 48 GND (power), 49 GND (power), 50 GND (power), 51 GND (power), 52 GND (power), 53 GND (power), 54 GND (power), 55 GND (power), 56 GND (power), 57 GND (power), 58 GND (power), 59 GND (power), 60 GND (power), 61 GND (power), 61_1 GND (power), 61_2 GND (power), 61_3 GND (power), 61_4 GND (power), 61_5 GND (power), 61_6 GND (power), 61_7 GND (power), 61_8 GND (power), 62 GND (power), 63 GND (power), 64 GND (power), 65 GND (power)

## GRM32EC80J107ME20L
designator C?, comment 100uF
Cout - Murata 1210 GRM 100uF Ceramic Multilayer Capacitor, 6.3 V dc, +105C, X6S Dielectric, +/-20% SMD; Manufacturer_Name: Murata Electronics; Manufacturer_Part_Number: GRM32EC80J107ME20L; Geometry.Height: 2.7mm; Mouser Part Number: 81-GRM32EC80J107ME0L; Mouser Price/Stock: https://www.mouser.co.uk/ProductDetail/Murata-Electronics/GRM32EC80J107ME20L?qs=eCxWOFGThBZyUCwIudAIww%3D%3D; Datasheet Link: http://psearch.en.murata.com/capacitor/product/GRM32ER71E226KE15%23.pdf
footprint CAPC3225X270N
pins: 1, 2

## MEM2061-01-188-00-A
designator J?, comment c
MEM2061 Series 8 Position 1.1 mm Pitch Push-Push MicroSD SMT Memory Card Connector; Manufacturer_Name: GCT (GLOBAL CONNECTOR TECHNOLOGY); Manufacturer_Part_Number: MEM2061-01-188-00-A; Geometry.Height: 2.13mm; Mouser Part Number: 640-MEM20610118800A; Mouser Price/Stock: https://www.mouser.co.uk/ProductDetail/GCT/MEM2061-01-188-00-A?qs=KUoIvG%2F9IlYc25USp0M1eQ%3D%3D; Datasheet Link: https://gct.co/files/drawings/mem2061.pdf?v=db251ddb-1946-4f24-aa19-b8a17901bdd2
footprint MEM20610118800A
pins: CD1 CARD_DETECT_1, CD2 CARD_DETECT_2, G1 GND_1, G2 GND_2, P1 DAT2, P2 CD/DAT3, P3 CMD, P4 VDD, P5 CLK, P6 VSS, P7 DAT0, P8 DAT1

## TPS62933PDRLR
designator U?
Package: None; Price: None; Value: *; MP: TPS62933PDRLR; Availability: Unavailable
footprint SOFL50P160X60-8N
pins: 1 RT (in), 2 EN (in), 3 VIN (in), 4 GND (power), 5 SW (out), 6 BST (power), 7 PG (in), 8 FB (in)

## TPSB475K035R0700
designator C?, comment 4.7uF
Cap Tant Solid 4.7uF 35V B CASE 10% (3.5 X 2.8 X 1.9mm) Inward L SMD 3528-21 0.7 Ohm 125C T/R; Manufacturer_Name: Kyocera AVX; Manufacturer_Part_Number: TPSB475K035R0700; Geometry.Height: 1.2mm; Mouser Part Number: 581-TPSB475K035R0700; Mouser Price/Stock: https://www.mouser.co.uk/ProductDetail/AVX/TPSB475K035R0700?qs=vV7MX5mTKGOnhbxp1nxMNw%3D%3D; Datasheet Link: http://datasheets.avx.com/TPS.pdf
footprint CAPPM3528X120N
pins: 1 +, 2 -